# Altium schematic symbol library 06035A6R0JAT2A.SchLib: 1 symbol
Pins are listed as number, name and electrical type; pins without a type are passive.

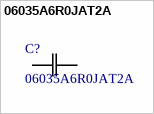
[diagram p0: symbol 06035A6R0JAT2A]

## 06035A6R0JAT2A
designator C?
No Description Available; Manufacturer_Name: KYOCERA AVX; Copyright: Copyright (C) 2025 Ultra Librarian. All rights reserved.; Manufacturer_Part_Number: 06035A6R0JAT2A
footprint CAP_06033D104JAT2A
pins: 1 EPAD, 2 EPAD